# EAGLE library part 6X1 (library Boards)
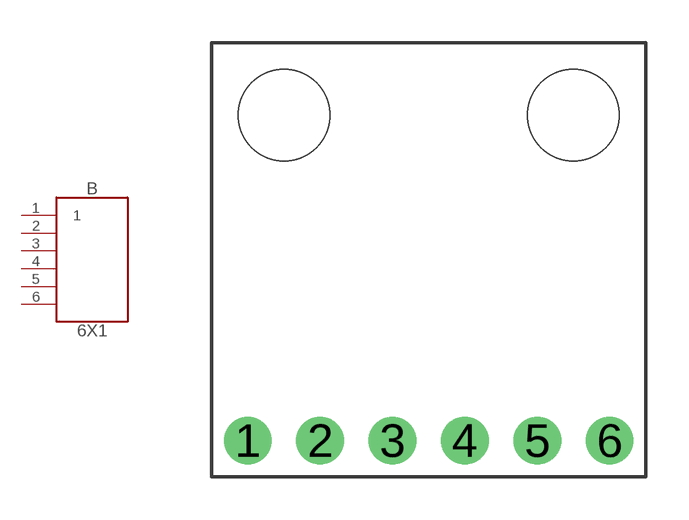
[diagram p7: symbol with the pads of MMA8452_BREAKOUT; footprint MMA8452_BREAKOUT]

Designator prefix B

## 6X1  [MMA8452_BREAKOUT]
1  1
2  2
3  3
4  4
5  5
6  6

## Footprint MMA8452_BREAKOUT (pad centres in mm)
drill 1 pad 1.676: 1 -6.35,-6.35; 2 -3.81,-6.35; 3 -1.27,-6.35; 4 1.27,-6.35; 5 3.81,-6.35; 6 6.35,-6.35
hole 3.2 at -5.08,5.08
hole 3.2 at 5.08,5.08